# EAGLE library part 3.5HEADPHONEJACK (library 764Library)
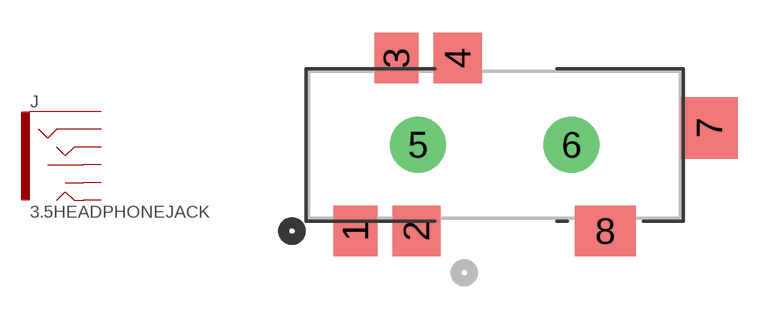
[diagram p2: symbol with the pads of CONN6_SJ-43516-SMT; footprint CONN6_SJ-43516-SMT]

Designator prefix J

## 3.5HEADPHONEJACK  [CONN6_SJ-43516-SMT]
1  SLEEVE
2  RING2
3  RINGSWITCH
4  RING1
7  TIPSWITCH
8  TIP

## Footprint CONN6_SJ-43516-SMT (pad centres in mm)
smd 2.007 x 2.311: 1 -7.772,-7.9; 3 -5.893,0
smd 2.21 x 2.311: 2 -4.978,-7.9; 4 -3.099,0
drill 1.702 pad 2.21: 5 -4.902,-3.962; 6 2.108,-3.962
smd 2.591 x 2.794: 7 8.407,-3.188
smd 2.794 x 2.311: 8 3.655,-7.9